# EAGLE library part FH12-12S-0.5SH_55_ (library SamacSys_Parts)
12 Position FFC, FPC Connector Contacts, Bottom 0.020" (0.50mm) Surface Mount, Right Angle Source: Datasheet <https://www.hirose.com/en/product/document?clcode=CL0586-0704-0-55&productname=FH12-12S-0.5SH(55)&series=FH12&documenttype=2DDrawing&lang=en&documentid=0000987484>
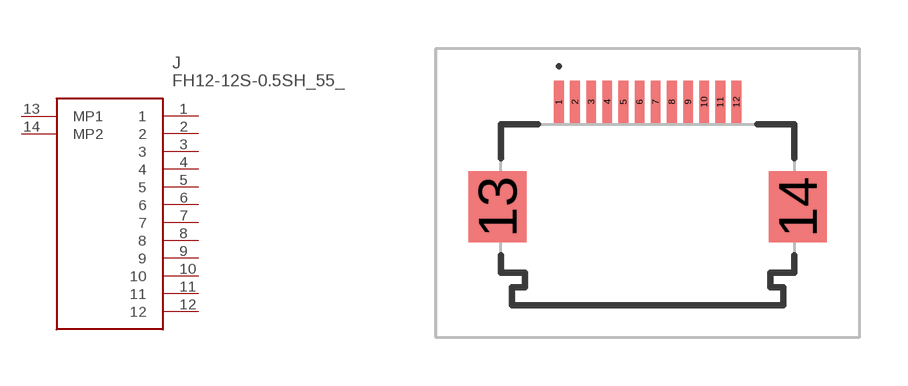
[diagram p28: symbol with the pads of FH1212S05SH55; footprint FH1212S05SH55]

Designator prefix J

## FH12-12S-0.5SH_55_ (DESCRIPTION: 12 Position FFC, FPC Connector Contacts, Bottom 0.020" (0.50mm) Surface Mount, Right Angle; HEIGHT: 2.2mm; MANUFACTURER_NAME: Hirose; MANUFACTURER_PART_NUMBER: FH12-12S-0.5SH(55); MOUSER_PART_NUMBER: 798-FH12-12S-0.5SH55; MOUSER_PRICE-STOCK: https://www.mouser.co.uk/ProductDetail/Hirose-Connector/FH12-12S-0.5SH55?qs=Ux3WWAnHpjA1i1nP49r1%2FQ%3D%3D)  [FH1212S05SH55]
1  1
2  2
3  3
4  4
5  5
6  6
7  7
8  8
9  9
10  10
11  11
12  12
13  MP1
14  MP2

## Footprint FH1212S05SH55 (pad centres in mm)
FH12-12S-0.5SH(55)-2
smd 0.3 x 1.3: 1 -2.75,3.15; 2 -2.25,3.15; 3 -1.75,3.15; 4 -1.25,3.15; 5 -0.75,3.15; 6 -0.25,3.15; 7 0.25,3.15; 8 0.75,3.15; 9 1.25,3.15; 10 1.75,3.15; 11 2.25,3.15; 12 2.75,3.15
smd 1.8 x 2.2: 13 -4.65,-0.1; 14 4.65,-0.1